# Altium schematic symbol library connectors.SchLib: 7 symbols
Pins are listed as number, name and electrical type; pins without a type are passive.

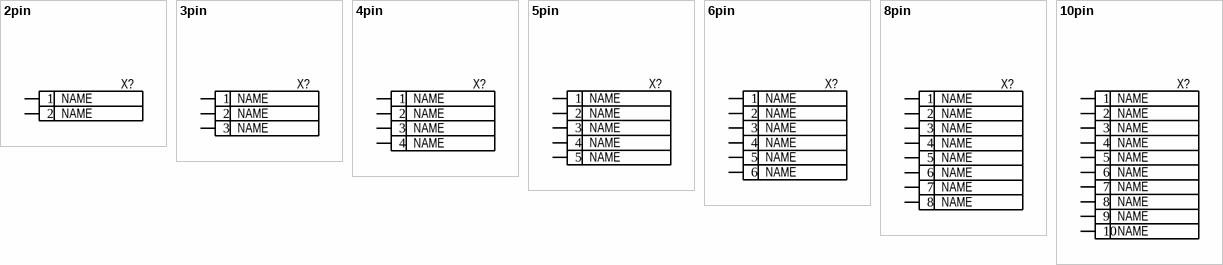
[diagram p0: symbols 2pin to 10pin]

## 2pin
designator X?  (value not drawn)
PIN1-NAME: NAME; PIN2-NAME: NAME
pins: 1, 2

## 3pin
designator X?  (value not drawn)
PIN1-NAME: NAME; PIN2-NAME: NAME; PIN3-NAME: NAME
pins: 1, 2, 3

## 4pin
designator X?  (value not drawn)
PIN1-NAME: NAME; PIN2-NAME: NAME; PIN3-NAME: NAME; PIN4-NAME: NAME
pins: 1, 2, 3, 4

## 5pin
designator X?  (value not drawn)
PIN1-NAME: NAME; PIN2-NAME: NAME; PIN3-NAME: NAME; PIN4-NAME: NAME; PIN5-NAME: NAME
pins: 1, 2, 3, 4, 5

## 6pin
designator X?  (value not drawn)
PIN1-NAME: NAME; PIN2-NAME: NAME; PIN3-NAME: NAME; PIN4-NAME: NAME; PIN5-NAME: NAME; PIN6-NAME: NAME
pins: 1, 2, 3, 4, 5, 6

## 8pin
designator X?  (value not drawn)
PIN1-NAME: NAME; PIN2-NAME: NAME; PIN3-NAME: NAME; PIN4-NAME: NAME; PIN5-NAME: NAME; PIN6-NAME: NAME; PIN7-NAME: NAME; PIN8-NAME: NAME
pins: 1, 2, 3, 4, 5, 6, 7, 8

## 10pin
designator X?  (value not drawn)
PIN1-NAME: NAME; PIN2-NAME: NAME; PIN3-NAME: NAME; PIN4-NAME: NAME; PIN5-NAME: NAME; PIN6-NAME: NAME; PIN7-NAME: NAME; PIN8-NAME: NAME; PIN9-NAME: NAME; PIN10-NAME: NAME
pins: 1, 2, 3, 4, 5, 6, 7, 8, 9, 10